# EAGLE library part USBLC6-2 (library harp timestamp generator Gen3)
TVS DIODE 5.25VWM 17VC SOT23-6
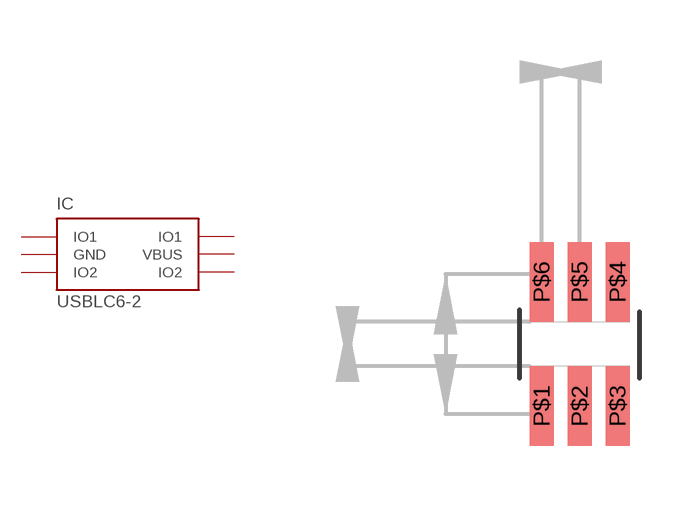
[diagram p0: symbol with the pads of SOT23-6L; footprint SOT23-6L]

Designator prefix IC

## USBLC6-2  [SOT23-6L]
P$1  IO1
P$2  GND
P$3  IO2
P$4  IO2
P$5  VBUS
P$6  IO1

## Footprint SOT23-6L (pad centres in mm)
smd 0.6 x 2: P$1 -0.95,-1.55; P$2 0,-1.55; P$3 0.95,-1.55; P$4 0.95,1.55; P$5 0,1.55; P$6 -0.95,1.55